# Altium schematic symbol library LM7805.SchLib: 1 symbol
Pins are listed as number, name and electrical type; pins without a type are passive.

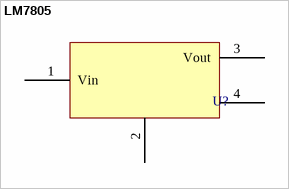
[diagram p0: symbol LM7805]

## LM7805
designator U?  (value not drawn)
5V, 1.5A linear voltage regulator with thermal and short-circuit protection. Requires 7V-35V input, typical dropout voltage of 2V.; Manufacturer: Texas Instruments; Manufacturer Part Number: LM7805/NOPB; Supplier: Digikey; Supplier Part Number: LM7805MP/NOPB-ND
footprint LM7805-SOT223 (SOT223, 4-Leads, Body 9.40x10.54mm (avg), Pitch 2.54mm, IPC Medium Density)
footprint LM7805-SOT223 (SOT223, 4-Leads, Body 9.40x10.54mm (avg), Pitch 2.54mm, IPC Medium Density)
footprint LM7805-SOT223 (SOT223, 4-Leads, Body 9.40x10.54mm (avg), Pitch 2.54mm, IPC Medium Density)
pins: 1 Vin, 2 Common, 3 Vout, 4 Common